# Altium schematic symbol library Level Shifters.SchLib: 5 symbols
Pins are listed as number, name and electrical type; pins without a type are passive.

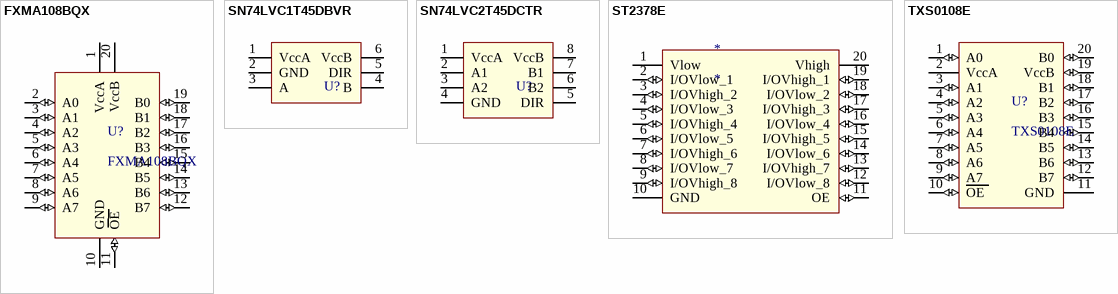
[diagram p0: symbols FXMA108BQX to TXS0108E]

## FXMA108BQX
designator U?
FXMA108BQX Level shifter
footprint DQFN-20 2.5x4.5mm
pins: 1 VccA, 2 A0 (io), 3 A1 (io), 4 A2 (io), 5 A3 (io), 6 A4 (io), 7 A5 (io), 8 A6 (io), 9 A7 (io), 10 GND, 11 OE (io), 12 B7 (io), 13 B6 (io), 14 B5 (io), 15 B4 (io), 16 B3 (io), 17 B2 (io), 18 B1 (io), 19 B0 (io), 20 VccB

## SN74LVC1T45DBVR
designator U?, comment Level Shifter  (value not drawn)
SINGLE-BIT  DUAL-SUPPLY  BUS  TRANSCEIVER  WITH  CONFIGURABLE  VOLTAGE  TRANSLATION  AND  3-STATE  OUTPUTS; Datasheet: http://lib.chipdip.ru/029/DOC001029700.pdf
footprint LC-SOT-23-6
pins: 1 VccA, 2 GND, 3 A, 4 B, 5 DIR, 6 VccB

## SN74LVC2T45DCTR
designator U?, comment Level Shifter  (value not drawn)
DUAL-BIT  DUAL-SUPPLY  BUS  TRANSCEIVER  WITH  CONFIGURABLE  VOLTAGE  TRANSLATION  AND  3-STATE  OUTPUTS; Datasheet: http://lib.chipdip.ru/974/DOC000974570.pdf
footprint LC-MSOP-8
pins: 1 VccA, 2 A1, 3 A2, 4 GND, 5 DIR, 6 B2, 7 B1, 8 VccB

## ST2378E
designator *
pins: 1 Vlow, 2 I/OVlow_1 (io), 3 I/OVhigh_2 (io), 4 I/OVlow_3 (io), 5 I/OVhigh_4 (io), 6 I/OVlow_5 (io), 7 I/OVhigh_6 (io), 8 I/OVlow_7 (io), 9 I/OVhigh_8 (io), 10 GND, 11 OE (io), 12 I/OVlow_8 (io), 13 I/OVhigh_7 (io), 14 I/OVlow_6 (io), 15 I/OVhigh_5 (io), 16 I/OVlow_4 (io), 17 I/OVhigh_3 (io), 18 I/OVlow_2 (io), 19 I/OVhigh_1 (io), 20 Vhigh

## TXS0108E
designator U?
TXS0108E Level shifter; VccA_min: 1.2 V; VccA_max: 3.6 V; VccB_min: 1.65 V; VccB_max: 5.5 V
footprint DQFN-20 2.5x4.5mm
footprint LC-TSSOP-20
pins: 1 A0 (io), 2 VccA, 3 A1 (io), 4 A2 (io), 5 A3 (io), 6 A4 (io), 7 A5 (io), 8 A6 (io), 9 A7 (io), 10 OE (io), 11 GND, 12 B7 (io), 13 B6 (io), 14 B5 (io), 15 B4 (io), 16 B3 (io), 17 B2 (io), 18 B1 (io), 19 VccB (io), 20 B0 (io)